# Altium schematic symbol library Layout_v1.SchLib: 8 symbols
Pins are listed as number, name and electrical type; pins without a type are passive.

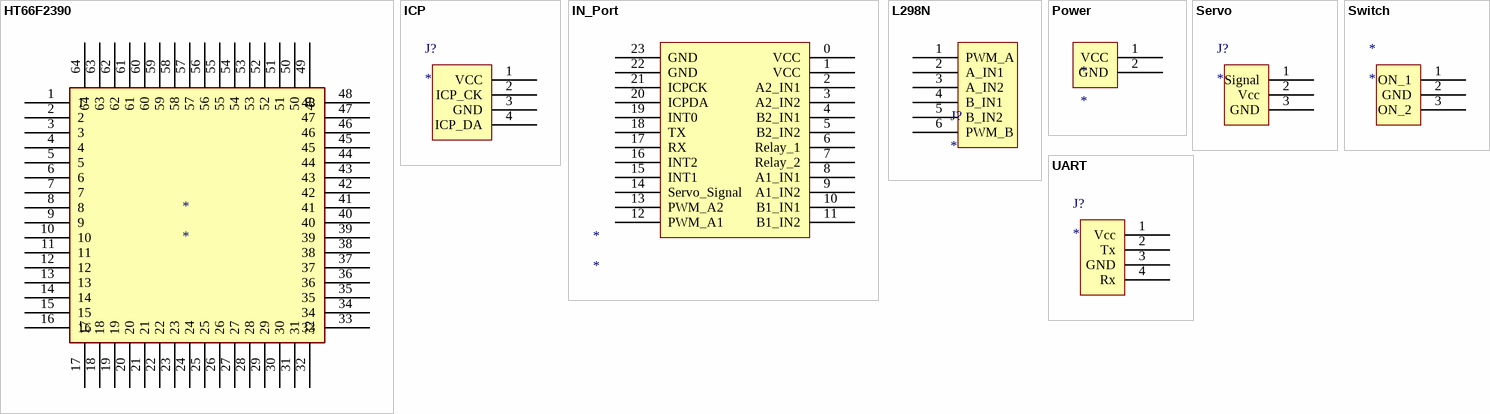
[diagram p0: symbols HT66F2390 to UART]

## HT66F2390
designator *
footprint HT66F2390_64P
pins: 1, 2, 3, 4, 5, 6, 7, 8, 9, 10, 11, 12, 13, 14, 15, 16, 17, 18, 19, 20, 21, 22, 23, 24, 25, 26, 27, 28, 29, 30, 31, 32, 33, 34, 35, 36, 37, 38, 39, 40, 41, 42, 43, 44, 45, 46, 47, 48, 49, 50, 51, 52, 53, 54, 55, 56, 57, 58, 59, 60, 61, 62, 63, 64

## ICP
designator J?
footprint ICP_4P
pins: 1 VCC, 2 ICP_CK, 3 GND, 4 ICP_DA

## IN_Port
designator *
footprint IC_Port_24P
pins: 0 VCC, 1 VCC, 2 A2_IN1, 3 A2_IN2, 4 B2_IN1, 5 B2_IN2, 6 Relay_1, 7 Relay_2, 8 A1_IN1, 9 A1_IN2, 10 B1_IN1, 11 B1_IN2, 12 PWM_A1, 13 PWM_A2, 14 Servo_Signal, 15 INT1, 16 INT2, 17 RX, 18 TX, 19 INT0, 20 ICPDA, 21 ICPCK, 22 GND, 23 GND

## L298N
designator J?
footprint L298n-6P
pins: 1 PWM_A, 2 A_IN1, 3 A_IN2, 4 B_IN1, 5 B_IN2, 6 PWM_B

## Power
designator *
footprint Power_2P
pins: 1 VCC, 2 GND

## Servo
designator J?
footprint Servo_3P
pins: 1 Signal, 2 Vcc, 3 GND

## Switch
designator *
footprint Switch_3P
pins: 1 ON_1, 2 GND, 3 ON_2

## UART
designator J?
footprint UART_4P
pins: 1 Vcc, 2 Tx, 3 GND, 4 Rx